# EAGLE library part IV-6 (library Russian-VFD-tubes)
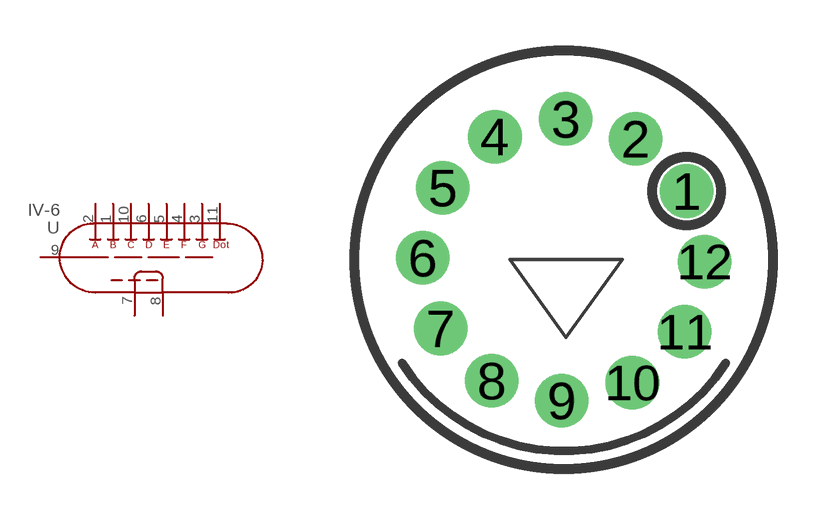
[diagram p0: symbol with the pads of IV-6; footprint IV-6]

Designator prefix -

## IV-6  [IV-6]
1  P$1
2  P$2
3  P$3
4  P$4
5  P$5
6  P$6
7  P$7
8  P$8
9  P$9
10  P$10
11  P$11

## Footprint IV-6 (pad centres in mm)
IV-6
drill 1.05: 1 3.545,2.013; 2 2.05,3.55; 3 -0.012,4.133; 4 -2.09,3.608; 5 -3.627,2.113; 6 -4.211,0.051; 7 -3.685,-2.028; 8 -2.191,-3.564; 9 -0.128,-4.148; 10 1.95,-3.622; 11 3.487,-2.128; 12 4.071,-0.065